# Altium schematic symbol library Anaren.SchLib: 2 symbols
Pins are listed as number, name and electrical type; pins without a type are passive.

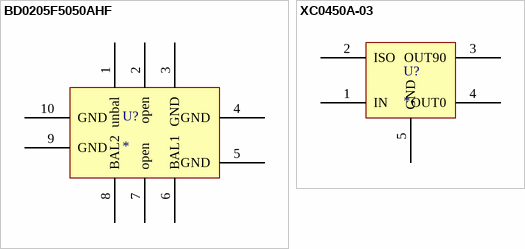
[diagram p0: symbols BD0205F5050AHF to XC0450A-03]

## BD0205F5050AHF
designator U?
Balun 50 Ohm to 50 Ohm
pins: 1 unbal, 2 open, 3 GND, 4 GND, 5 GND, 6 BAL1, 7 open, 8 BAL2, 9 GND, 10 GND

## XC0450A-03
designator U?
pins: 1 IN, 2 ISO, 3 OUT90, 4 OUT0, 5 GND